# Altium schematic symbol library ADS131M08IPBS.SchLib: 1 symbol
Pins are listed as number, name and electrical type; pins without a type are passive.

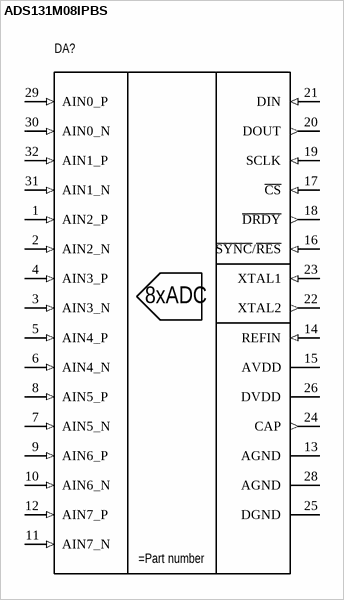
[diagram p0: symbol ADS131M08IPBS]

## ADS131M08IPBS
designator DA?
8-Channel, Simultaneously-Sampling, 24-Bit, Delta-Sigma ADC
pins: 1 AIN2_P (in), 2 AIN2_N (in), 3 AIN3_N (in), 4 AIN3_P (in), 5 AIN4_P (in), 6 AIN4_N (in), 7 AIN5_N (in), 8 AIN5_P (in), 9 AIN6_P (in), 10 AIN6_N (in), 11 AIN7_N (in), 12 AIN7_P (in), 13 AGND (power), 14 REFIN (in), 15 AVDD (power), 16 ~{SYNC}/~{RES} (in), 17 ~{CS} (in), 18 ~{DRDY} (out), 19 SCLK (in), 20 DOUT (out), 21 DIN (in), 22 XTAL2 (out), 23 XTAL1 (in), 24 CAP (out), 25 DGND (power), 26 DVDD (power), 28 AGND (power), 29 AIN0_P (in), 30 AIN0_N (in), 31 AIN1_N (in), 32 AIN1_P (in)
text: 8xADC